# Altium schematic symbol library 1564IR8T2.Schlib: 1 symbol
Pins are listed as number, name and electrical type; pins without a type are passive.

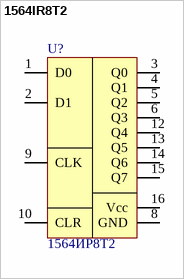
[diagram p0: symbol 1564IR8T2]

## 1564IR8T2
designator U?, comment 1564ИР8Т2
Назначение: 8-ми разрядный сдвиговый регистр; Наименование: 1564ИР8Т2
footprint 2ДС627А
pins: 1 D0, 2 D1, 3 Q0, 4 Q1, 5 Q2, 6 Q3, 8 GND, 9 CLK, 10 CLR, 12 Q4, 13 Q5, 14 Q6, 15 Q7, 16 Vcc